# EAGLE library part ATTINY25/45/85 (library SW_Microcontroller)
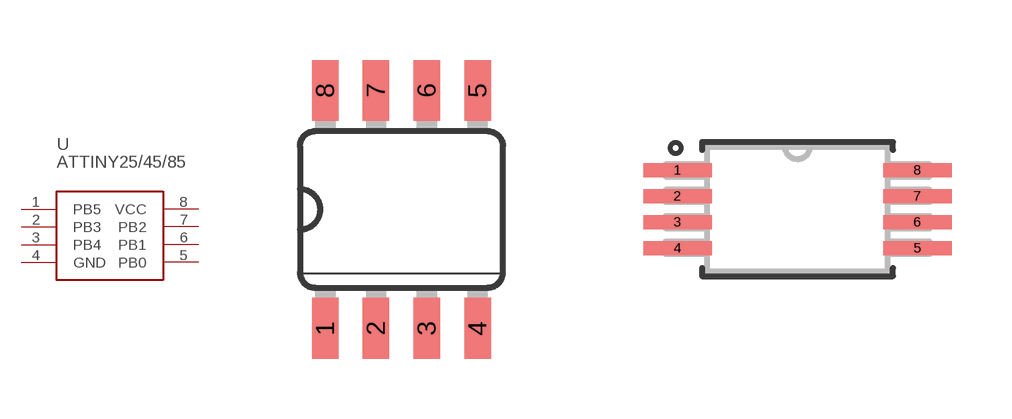
[diagram p9: symbol with the pads of SOIC-8; footprints SOIC-8, TSSOP-8]

Designator prefix U

## ATTINY25/45/85SOIC (CATEGORY: Microcontroller; DESCRIPTION: AVR series Microcontroller IC 8-Bit 20MHz 8KB (4K x 16) FLASH 8-SOIC; MFGS: Microchip Technology; MPNS: ATTINY85-20SHR; PACKAGE: SOIC-8)  [SOIC-8]
1  PB5
2  PB3
3  PB4
4  GND  pwr
5  PB0
6  PB1
7  PB2
8  VCC  pwr

## ATTINY25/45/85TSSOP (CATEGORY: Microcontroller; DESCRIPTION: AVR series Microcontroller IC 8-Bit 10MHz 4KB (2K x 16) FLASH 8-TSSOP; MFGS: Microchip Technology; MPNS: ATTINY45V-10XUR; PACKAGE: TSSOP-8)  [TSSOP-8]
Pads as for SOIC-8

## Footprint SOIC-8 (pad centres in mm)
smd 0.66 x 1.524: 1 -1.905,-2.973; 2 -0.635,-2.973; 3 0.635,-2.973; 4 1.905,-2.973; 5 1.905,2.973; 6 0.635,2.973; 7 -0.635,2.973; 8 -1.905,2.973

## Footprint TSSOP-8 (pad centres in mm)
smd 1.716 x 0.351: 1 -3.001,0.975; 2 -3.001,0.325; 3 -3.001,-0.325; 4 -3.001,-0.975; 5 3.001,-0.975; 6 3.001,-0.325; 7 3.001,0.325; 8 3.001,0.975